# Altium integrated library Interface - Controllers.IntLib: 2 symbols
Pins are listed as number, name and electrical type; pins without a type are passive.

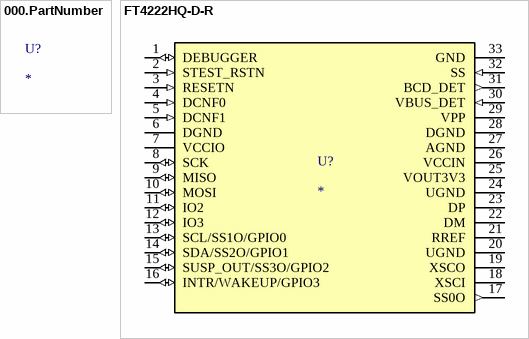
[diagram p0: symbols 000.PartNumber to FT4222HQ-D-R]

## 000.PartNumber
designator U?
Digikey Description; Manufacturer: *; Series: *; Package: *; Protocol: *; Function: *; Interface: *; Standards: *; Voltage - Supply: *; Current - Supply: *; Operating Temperature: *; Package / Case: *; Supplier Device Package: *; Base Product Number: *; Ozdisan Link: *; Digikey Link: *; Farnell TR Link: *; Mouser Link: *

## FT4222HQ-D-R
designator U?
IC BRIDGE USB TO I2C/SPI 32VQFN; Manufacturer: FTDI, Future Technology Devices International Ltd; Function: Bridge, USB to I²C/SPI; Interface: I²C, SPI; Standards: USB 2.0; Voltage - Supply: 1.8V, 2.5V, 3.3V, 5V; Current - Supply: 78 mA; Base Product Number: FT4222; Series: -; Package: Tape & Reel (TR); Protocol: USB; Operating Temperature: -40°C ~ 85°C; Package / Case: 32-VFQFN Exposed Pad; Supplier Device Package: 32-VQFN (5x5); Ozdisan Link: -; Digikey Link: https://www.digikey.com/en/products/detail/ftdi-future-technology-devices-international-ltd/FT4222HQ-D-R/8753389; Farnell TR Link: -; Mouser Link: https://www.mouser.com.tr/ProductDetail/FTDI/FT4222HQ-D-R?qs=%2Fha2pyFaduj%2FQRZH6A1p5qKFFfLvGfXWjY0k8KXINe8qVU2TPZzVhw%3D%3D
footprint FTDI_32-VQFN (5x5)
pins: 1 DEBUGGER (io), 2 STEST_RSTN (in), 3 RESETN (in), 4 DCNF0 (in), 5 DCNF1 (in), 6 DGND, 7 VCCIO (power), 8 SCK (io), 9 MISO (io), 10 MOSI (io), 11 IO2 (io), 12 IO3 (io), 13 SCL/SS1O/GPIO0 (io), 14 SDA/SS2O/GPIO1 (io), 15 SUSP_OUT/SS3O/GPIO2 (io), 16 INTR/WAKEUP/GPIO3 (io), 17 SS0O (out), 18 XSCI, 19 XSCO, 20 UGND, 21 RREF, 22 DM, 23 DP, 24 UGND, 25 VOUT3V3 (power), 26 VCCIN (power), 27 AGND, 28 DGND, 29 VPP (power), 30 VBUS_DET (in), 31 BCD_DET (out), 32 SS (in), 33 GND